# Altium schematic symbol library Connections.SchLib: 23 symbols
Pins are listed as number, name and electrical type; pins without a type are passive.

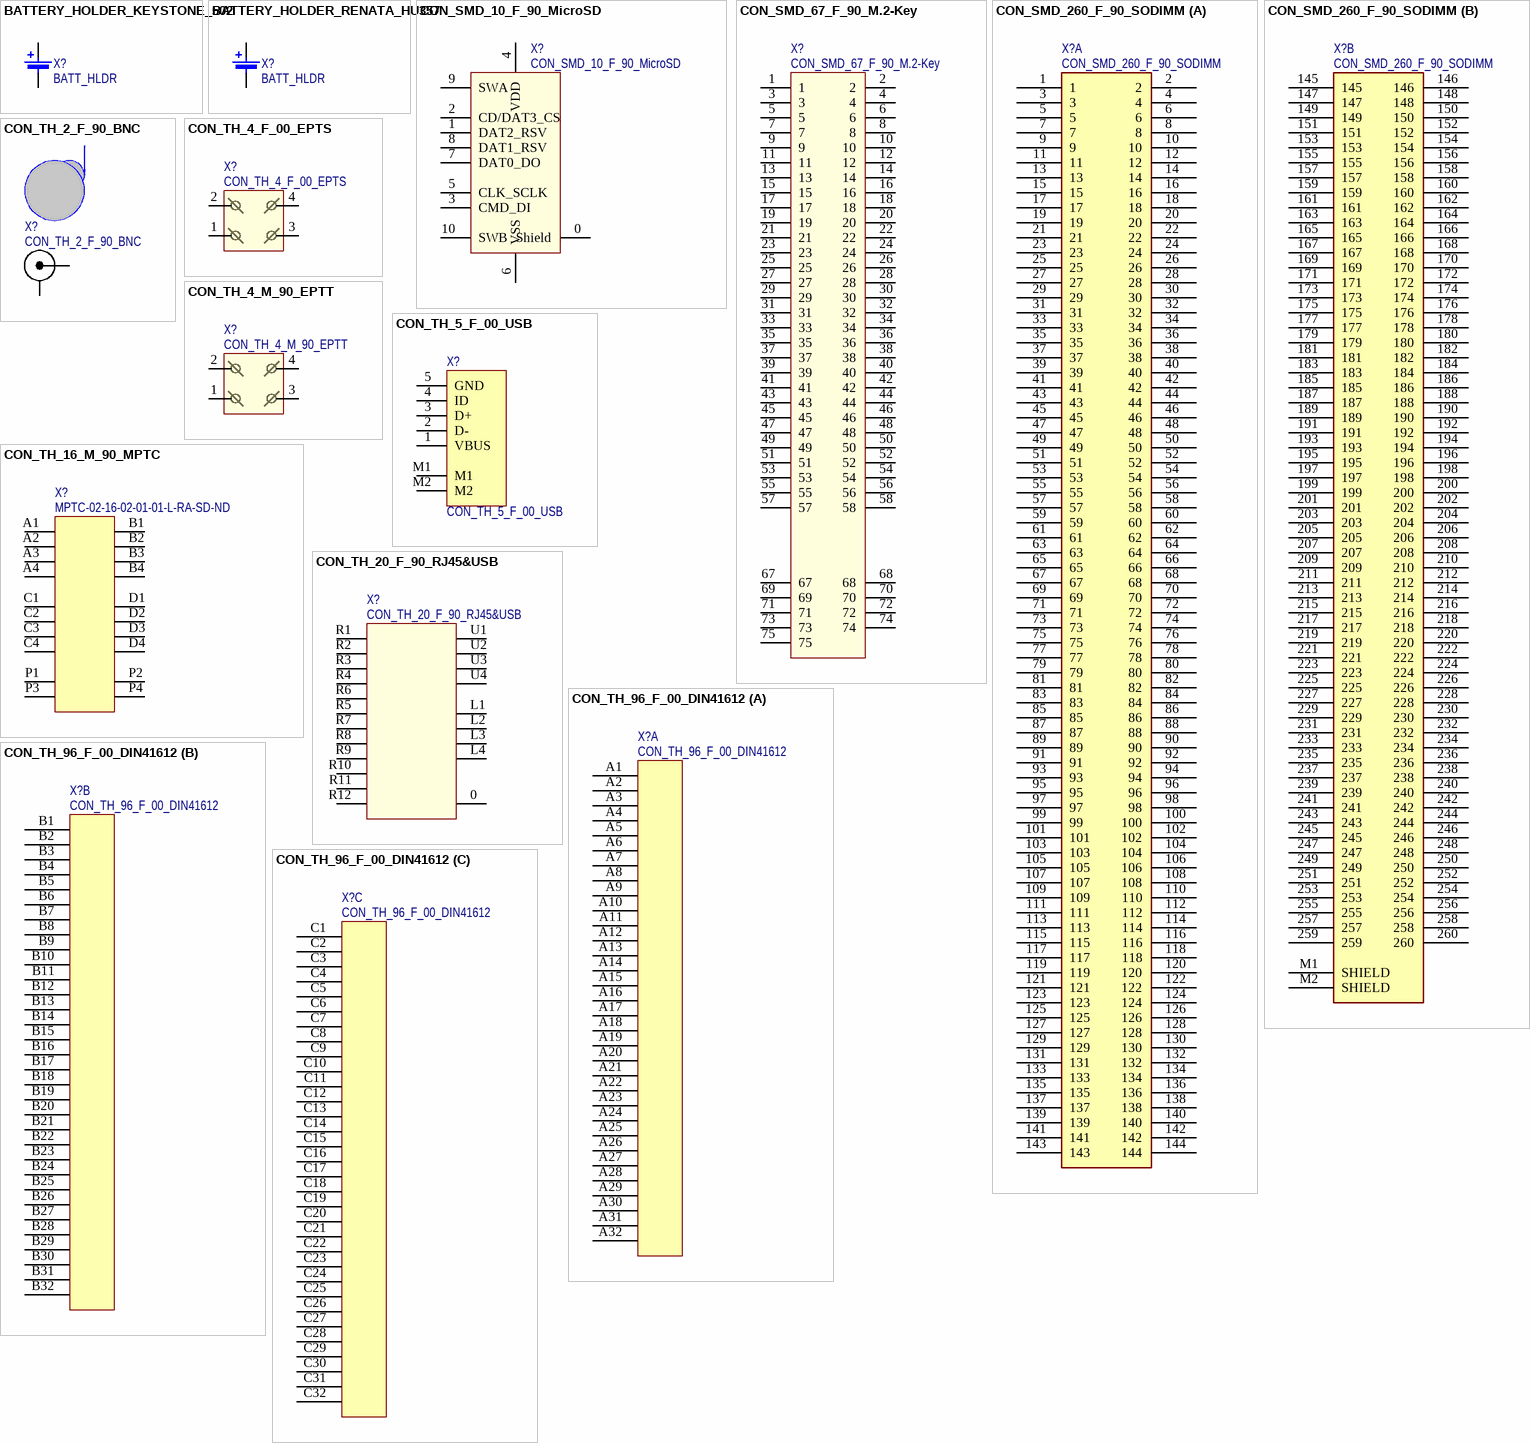
[diagram p0: symbols BATTERY_HOLDER_KEYSTONE_502 to CON_TH_96_F_00_DIN41612]

## BATTERY_HOLDER_KEYSTONE_502
designator X?, comment value BATT_HLDR  (hidden comment: Keystone 502)
Connection; Battery Holder; Coin; 16mm; Through Hole; Manufacturer Part Number: 502; ComponentLink1Description: Supplier Info; ComponentLink1URL: https://www.digikey.co.uk/en/products/detail/keystone-electronics/502/227475?s=N4IgTCBcDaIMwDYC0BWADGJA5AIiAugL5A; ComponentLink2Description: Datasheet; ComponentLink2URL: https://www.keyelco.com/userAssets/file/M65p2.pdf; Manufacturer: Keystone; Supplier 1: Digi-key; Supplier Part Number 1: 36-502-ND
footprint Battery Holder Keystone 502
pins: 1, 2

## BATTERY_HOLDER_RENATA_HU357
designator X?, comment value BATT_HLDR  (hidden comment: HU357-LF)
Connection; Battery Holder; Coin; 12mm; Through Hole; Manufacturer: Renata; Manufacturer Part Number: HU357-LF; Supplier 1: Mouser; Supplier Part Number 1: 614-HU357-LF; ComponentLink1Description: Supplier Info; ComponentLink1URL: https://www.mouser.de/ProductDetail/Renata/HU357-LF?qs=%2Fha2pyFadujb%252BjPSOXiRz7fkC43b9Pf0VN0uI1M5lhU%3D; ComponentLink2Description: Datasheet; ComponentLink2URL: https://www.mouser.de/datasheet/2/346/HU357-LF-30189.pdf
footprint KEYSTONE-BATTHLDR-103
pins: 1, 2
2 alternate drawings of the same symbol

## CON_SMD_10_F_90_MicroSD
designator X?, comment value CON_SMD_10_F_90_MicroSD  (hidden comment: 5025700893)
Connector; MicroSD; Right Angled; SMD; Card Push-Push; Manufacturer: Molex; ComponentLink1Description: Supplier Info; ComponentLink1URL: https://www.digikey.de/product-detail/en/molex/5025700893/WM19093DKR-ND/1866796; ComponentLink2Description: Datasheet; ComponentLink2URL: https://www.molex.com/pdm_docs/sd/5025700893_sd.pdf; Manufacturer Part Number: 5025700893; Supplier 1: Digi-Key; Supplier Part Number 1: WM19093CT-ND
footprint CON_SMD_10_F_90_MicroSD (Connector; MicroSD; Right Angled; SMD; Card Push-Push)
pins: 0 Shield, 1 DAT2_RSV, 2 CD/DAT3_CS, 3 CMD_DI, 4 VDD, 5 CLK_SCLK, 6 VSS, 7 DAT0_DO, 8 DAT1_RSV, 9 SWA, 10 SWB

## CON_SMD_67_F_90_M.2-Key
designator X?, comment value CON_SMD_67_F_90_M.2-Key  (hidden comment: MDT420M01001)
Connector; M.2 M-Key; 67 Positions; Female; Right Angle; Black; Manufacturer: Amphenol ICC (FCI); ComponentLink1Description: Supplier Info; ComponentLink1URL: https://www.digikey.de/product-detail/en/amphenol-icc-commercial-products/MDT420M01001/MDT420M01001DKR-ND/5810401; ComponentLink2Description: Datasheet; ComponentLink2URL: https://signin.amphenolcanada.com/ProductSearch/pdf/MDT_BRO.pdf; Manufacturer Part Number: MDT420M01001; Supplier 1: Digi-Key; Supplier Part Number 1: MDT420M01001CT-ND
footprint MDT420M01001 (M.2 (M-Key) Amphenol)
pins: 1, 2, 3, 4, 5, 6, 7, 8, 9, 10, 11, 12, 13, 14, 15, 16, 17, 18, 19, 20, 21, 22, 23, 24, 25, 26, 27, 28, 29, 30, 31, 32, 33, 34, 35, 36, 37, 38, 39, 40, 41, 42, 43, 44, 45, 46, 47, 48, 49, 50, 51, 52, 53, 54, 55, 56, 57, 58, 67, 68, 69, 70, 71, 72, 73, 74, 75

## CON_SMD_260_F_90_SODIMM
designator X?, comment value CON_SMD_260_F_90_SODIMM  (hidden comment: 2309411-1)
Connector; SODIMM; DDR4 SDRAM; 260 Pins; SMD; Right Angle; 8.0mm Height; Manufacturer: TE Connectivity AMP Connectors; ComponentLink1Description: Supplier Info; ComponentLink1URL: https://www.digikey.de/product-detail/en/te-connectivity-amp-connectors/2309411-1/A126762CT-ND/7793546; ComponentLink2Description: Datasheet; ComponentLink2URL: https://www.te.com/commerce/DocumentDelivery/DDEController?Action=srchrtrv&DocNm=2309411&DocType=Customer+Drawing&DocLang=English; Manufacturer Part Number: 2309411-1; Supplier 1: Digi-Key; Supplier Part Number 1: A126762CT-ND
footprint 2309411-1 (DDR4 SODIMM 260P 8.0H STD)
part A pins: 1, 2, 3, 4, 5, 6, 7, 8, 9, 10, 11, 12, 13, 14, 15, 16, 17, 18, 19, 20, 21, 22, 23, 24, 25, 26, 27, 28, 29, 30, 31, 32, 33, 34, 35, 36, 37, 38, 39, 40, 41, 42, 43, 44, 45, 46, 47, 48, 49, 50, 51, 52, 53, 54, 55, 56, 57, 58, 59, 60, 61, 62, 63, 64, 65, 66, 67, 68, 69, 70, 71, 72, 73, 74, 75, 76, 77, 78, 79, 80, 81, 82, 83, 84, 85, 86, 87, 88, 89, 90, 91, 92, 93, 94, 95, 96, 97, 98, 99, 100, 101, 102, 103, 104, 105, 106, 107, 108, 109, 110, 111, 112, 113, 114, 115, 116, 117, 118, 119, 120, 121, 122, 123, 124, 125, 126, 127, 128, 129, 130, 131, 132, 133, 134, 135, 136, 137, 138, 139, 140, 141, 142, 143, 144
part B pins: 145, 146, 147, 148, 149, 150, 151, 152, 153, 154, 155, 156, 157, 158, 159, 160, 161, 162, 163, 164, 165, 166, 167, 168, 169, 170, 171, 172, 173, 174, 175, 176, 177, 178, 179, 180, 181, 182, 183, 184, 185, 186, 187, 188, 189, 190, 191, 192, 193, 194, 195, 196, 197, 198, 199, 200, 201, 202, 203, 204, 205, 206, 207, 208, 209, 210, 211, 212, 213, 214, 215, 216, 217, 218, 219, 220, 221, 222, 223, 224, 225, 226, 227, 228, 229, 230, 231, 232, 233, 234, 235, 236, 237, 238, 239, 240, 241, 242, 243, 244, 245, 246, 247, 248, 249, 250, 251, 252, 253, 254, 255, 256, 257, 258, 259, 260, M1 SHIELD, M2 SHIELD

## CON_TH_2_F_90_BNC
designator X?, comment value CON_TH_2_F_90_BNC  (hidden comment: 112778)
Connector; BNC Jack; Right Angled; 75Ohm; Manufacturer: Amphenol RF; Manufacturer Part Number: 112778; Supplier 1: Digi-Key; Supplier Part Number 1: ACX1985-ND; ComponentLink1Description: Supplier Info; ComponentLink1URL: https://www.digikey.de/product-detail/en/amphenol-rf/112778/ACX1985-ND/3088370; ComponentLink2Description: Datasheet; ComponentLink2URL: https://s3-us-west-2.amazonaws.com/catsy.582/112778.pdf
footprint CON_TH_2_F_90_BNC (Connector; BNC Jack; Right Angled; 75Ohm)
pins: 0 Shield, 1 Signal

## CON_TH_4_F_00_EPTS
designator X?, comment value CON_TH_4_F_00_EPTS  (hidden comment: EPTS-2-P-D-VT-01)
Connector; Power module; Vertical; Female (Socket); Samtec EPTS Series; Manufacturer: Samtec Inc.; ComponentLink1Description: Supplier Info; ComponentLink1URL: https://www.samtec.com/products/epts-2-p-d-vt-01; ComponentLink2Description: Datasheet; ComponentLink2URL: http://suddendocs.samtec.com/catalog_english/eptt.pdf; Manufacturer Part Number: EPTS-2-P-D-VT-01; Supplier 1: Mouser; Supplier Part Number 1: 200-EPTS-2-P-D-VT-01
footprint EPTS-2-P-D-VT-1 (Power MaxiSCT (Backplane Side))
pins: 1, 2, 3, 4

## CON_TH_4_M_90_EPTT
designator X?, comment value CON_TH_4_M_90_EPTT  (hidden comment: EPTT-2-P-11.5-D-RA)
Connector; Power module; Right Angle; Male; Samtec EPTT Series; Manufacturer: Samtec Inc.; ComponentLink1Description: Supplier Info; ComponentLink1URL: https://www.samtec.com/products/eptt-2-p-11.5-d-ra; ComponentLink2Description: Datasheet; ComponentLink2URL: http://suddendocs.samtec.com/catalog_english/eptt.pdf; Manufacturer Part Number: EPTT-2-P-11.5-D-RA; Supplier 1: Mouser; Supplier Part Number 1: 200-EPTT-2-P-11.5DRA
footprint EPTT-2-P-11.5-D-RA (Power MaxiSCT (Card Side))
pins: 1, 2, 3, 4

## CON_TH_5_F_00_USB
designator X?, comment value CON_TH_5_F_00_USB  (hidden comment: 5000751517)
Connector; Receptacle; USB2.0 OTG; Mini B; Straight. Through hole; Manufacturer: Molex; ComponentLink1Description: Supplier Info; ComponentLink1URL: https://www.digikey.de/products/en?keywords=WM2072-ND; ComponentLink2Description: Datasheet; ComponentLink2URL: https://www.molex.com/pdm_docs/sd/5000751517_sd.pdf; Manufacturer Part Number: 5000751517; Supplier 1: Digi-Key; Supplier Part Number 1: WM2072-ND
footprint CON_TH_5_F_00_USB (Connector; Receptacle; USB2.0 OTG; Mini B; Straight. Through hole; MOLEX-5000751517)
pins: 1 VBUS, 2 D-, 3 D+, 4 ID, 5 GND, M1, M2

## CON_TH_16_M_90_MPTC
designator X?, comment Supplier Part Number 1: MPTC-02-16-02-01-01-L-RA-SD-ND  (hidden comment: MPTC-02-16-02-01-01-L-RA-SD)
Connector; 20 (16 + 4 Power) position; Male; Through Hole; Right Angle; SAMTEC MPTC Series; Value: CON_TH_16_M_90_MPTC; ComponentLink1Description: Supplier Info; ComponentLink1URL: https://www.digikey.com/en/products/detail/samtec-inc/MPTC-02-16-02-01-01-L-RA-SD/10218446?s=N4IgTCBcDaILIAUAqBhAtABjGgjANk2wx0xIBk0AlAQTQGUARNAOQZAF0BfIA; ComponentLink2Description: Datasheet; ComponentLink2URL: https://suddendocs.samtec.com/catalog_english/mptc_ra.pdf; Manufacturer: Samtec; Manufacturer Part Number: MPTC-02-16-02-01-01-L-RA-SD; Supplier 1: Digi-Key
footprint CON_TH_16_M_90_MPTC (Connector; 20 (16 + 4 Power) position; Male; Through Hole; Right Angle; SAMTEC MPTC Series)
pins: A1, A2, A3, A4, B1, B2, B3, B4, C1, C2, C3, C4, D1, D2, D3, D4, P1 (power), P2 (power), P3 (power), P4 (power)

## CON_TH_20_F_90_RJ45&USB
designator X?, comment value CON_TH_20_F_90_RJ45&USB  (hidden comment: RJMG233022610ER)
Connector; RJ45 with USB A; Right Angled; 1 Port; 1000 BASE-T; Manufacturer: Amphenol Commercial Products; ComponentLink1Description: Supplier Info; ComponentLink1URL: https://www.digikey.de/product-detail/en/amphenol-commercial-products/RJMG233022610ER/RJMG233022610ER-ND/5359808; ComponentLink2Description: Datasheet; ComponentLink2URL: https://cdn.amphenol-icc.com/media/wysiwyg/files/documentation/datasheet/inputoutput/io_rjmag.pdf; Manufacturer Part Number: RJMG233022610ER; Supplier 1: Digi-Key; Supplier Part Number 1: RJMG233022610ER-ND
footprint RJMG233022610ER (RJ45 + USB)
pins: 0 GND, L1, L2, L3, L4, R1, R2, R3, R4, R5, R6, R7, R8, R9, R10, R11, R12, U1 VCC, U2 DATA-, U3 DATA+, U4 GND

## CON_TH_96_F_00_DIN41612
designator X?, comment value CON_TH_96_F_00_DIN41612  (hidden comment: 09032962861)
Connector; DIN41612; 96 Positions; Female; Straight; Through Hole; Manufacturer: Harting; Manufacturer Part Number: 09032962861; ComponentLink1Description: Supplier Info; ComponentLink1URL: https://www.digikey.de/products/en?keywords=09032962861; ComponentLink2Description: Datasheet; ComponentLink2URL: https://b2b.harting.com/files/download/PRD/PDF_TS/0903296X861_100072194DRW085D.pdf; Supplier 1: Digi-Key; Supplier Part Number 1: 1195-1192-ND
footprint CON_TH_96_F_00_DIN41612 (Connector; DIN41612; 96 Positions; Female; Straight; Through Hole)
part A pins: A1, A2, A3, A4, A5, A6, A7, A8, A9, A10, A11, A12, A13, A14, A15, A16, A17, A18, A19, A20, A21, A22, A23, A24, A25, A26, A27, A28, A29, A30, A31, A32
part B pins: B1, B2, B3, B4, B5, B6, B7, B8, B9, B10, B11, B12, B13, B14, B15, B16, B17, B18, B19, B20, B21, B22, B23, B24, B25, B26, B27, B28, B29, B30, B31, B32
part C pins: C1, C2, C3, C4, C5, C6, C7, C8, C9, C10, C11, C12, C13, C14, C15, C16, C17, C18, C19, C20, C21, C22, C23, C24, C25, C26, C27, C28, C29, C30, C31, C32

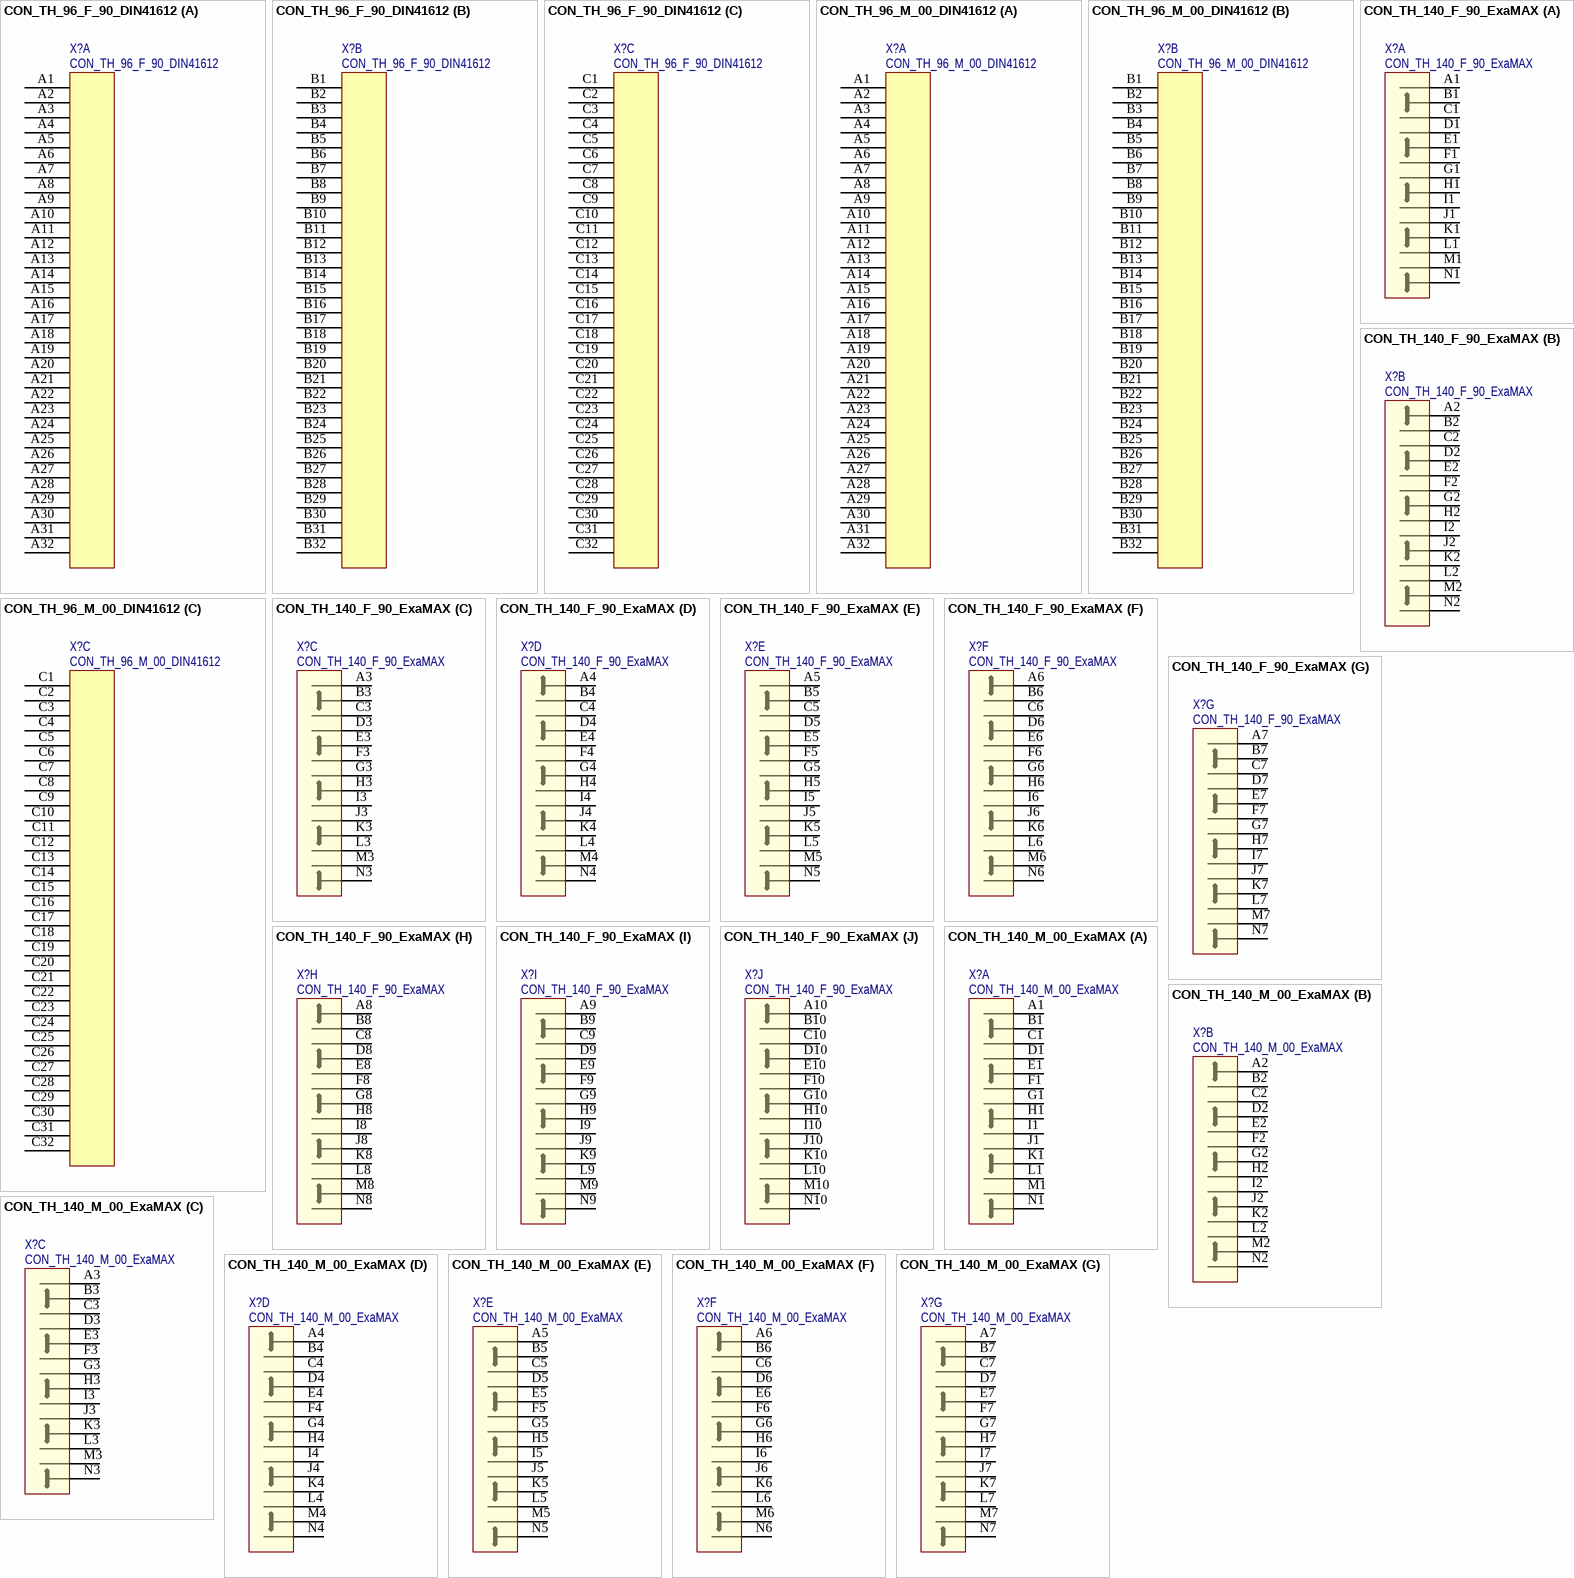
[diagram p1: symbols CON_TH_96_F_90_DIN41612 to CON_TH_140_M_00_ExaMAX]

## CON_TH_96_F_90_DIN41612
designator X?, comment value CON_TH_96_F_90_DIN41612  (hidden comment: 09732966801)
Connector; DIN41612; 96 Positions; Female; Right Angle; Through Hole; Manufacturer: Harting; Manufacturer Part Number: 09732966801; ComponentLink1Description: Supplier Info; ComponentLink1URL: https://www.digikey.de/product-detail/en/harting/09732966801/1195-2893-ND/3181477; ComponentLink2Description: Datasheet; ComponentLink2URL: https://b2b.harting.com/files/download/PRD/PDF_TS/0973296X801_100104712DRW068A.pdf; Supplier 1: Digi-Key; Supplier Part Number 1: 1195-2893-ND
footprint CON_TH_96_F_90_DIN41612 (Connector; DIN41612; 96 Positions; Female; Right Angle; Through Hole)
part A pins: A1, A2, A3, A4, A5, A6, A7, A8, A9, A10, A11, A12, A13, A14, A15, A16, A17, A18, A19, A20, A21, A22, A23, A24, A25, A26, A27, A28, A29, A30, A31, A32
part B pins: B1, B2, B3, B4, B5, B6, B7, B8, B9, B10, B11, B12, B13, B14, B15, B16, B17, B18, B19, B20, B21, B22, B23, B24, B25, B26, B27, B28, B29, B30, B31, B32
part C pins: C1, C2, C3, C4, C5, C6, C7, C8, C9, C10, C11, C12, C13, C14, C15, C16, C17, C18, C19, C20, C21, C22, C23, C24, C25, C26, C27, C28, C29, C30, C31, C32

## CON_TH_96_M_00_DIN41612
designator X?, comment value CON_TH_96_M_00_DIN41612  (hidden comment: 09731966907)
Connector; DIN41612; 96 Positions; Male; Straight; Through Hole; Manufacturer: Harting; Manufacturer Part Number: 09731966907; ComponentLink1Description: Supplier Info; ComponentLink1URL: https://www.digikey.de/products/en?keywords=09731966907; ComponentLink2Description: Datasheet; ComponentLink2URL: https://b2b.harting.com/files/download/PRD/PDF_DS/09731100001_100560208DRW001D.pdf; Supplier 1: Digi-Key; Supplier Part Number 1: 1195-5217-ND
footprint CON_TH_96_M_00_DIN41612 (Connector; DIN41612; 96 Positions; Male; Straight; Through Hole)
part A pins: A1, A2, A3, A4, A5, A6, A7, A8, A9, A10, A11, A12, A13, A14, A15, A16, A17, A18, A19, A20, A21, A22, A23, A24, A25, A26, A27, A28, A29, A30, A31, A32
part B pins: B1, B2, B3, B4, B5, B6, B7, B8, B9, B10, B11, B12, B13, B14, B15, B16, B17, B18, B19, B20, B21, B22, B23, B24, B25, B26, B27, B28, B29, B30, B31, B32
part C pins: C1, C2, C3, C4, C5, C6, C7, C8, C9, C10, C11, C12, C13, C14, C15, C16, C17, C18, C19, C20, C21, C22, C23, C24, C25, C26, C27, C28, C29, C30, C31, C32

## CON_TH_140_F_90_ExaMAX
designator X?, comment value CON_TH_140_F_90_ExaMAX  (hidden comment: EBTF-4-10-2.0-S-RA-1)
Connector; Receptacle; Female; 140 Pins; Through Hole; Press-Fit; Right Angle; Black; Manufacturer: Samtec Inc.; ComponentLink1Description: Supplier Info; ComponentLink1URL: https://www.samtec.com/products/ebtf-4-10-2.0-s-ra-1; ComponentLink2Description: Datasheet; ComponentLink2URL: http://suddendocs.samtec.com/catalog_english/ebtf-ra.pdf; Manufacturer Part Number: EBTF-4-10-2.0-S-RA-1; Supplier 1: Digi-Key; Supplier Part Number 1: SAM14995-ND
footprint EBTF-4-10-2.0-S-RA-1 (Signals MaxiSCT (SCT8 side))
part A pins: A1, B1, C1, D1, E1, F1, G1, H1, I1, J1, K1, L1, M1, N1
part B pins: A2, B2, C2, D2, E2, F2, G2, H2, I2, J2, K2, L2, M2, N2
part C pins: A3, B3, C3, D3, E3, F3, G3, H3, I3, J3, K3, L3, M3, N3
part D pins: A4, B4, C4, D4, E4, F4, G4, H4, I4, J4, K4, L4, M4, N4
part E pins: A5, B5, C5, D5, E5, F5, G5, H5, I5, J5, K5, L5, M5, N5
part F pins: A6, B6, C6, D6, E6, F6, G6, H6, I6, J6, K6, L6, M6, N6
part G pins: A7, B7, C7, D7, E7, F7, G7, H7, I7, J7, K7, L7, M7, N7
part H pins: A8, B8, C8, D8, E8, F8, G8, H8, I8, J8, K8, L8, M8, N8
part I pins: A9, B9, C9, D9, E9, F9, G9, H9, I9, J9, K9, L9, M9, N9
part J pins: A10, B10, C10, D10, E10, F10, G10, H10, I10, J10, K10, L10, M10, N10

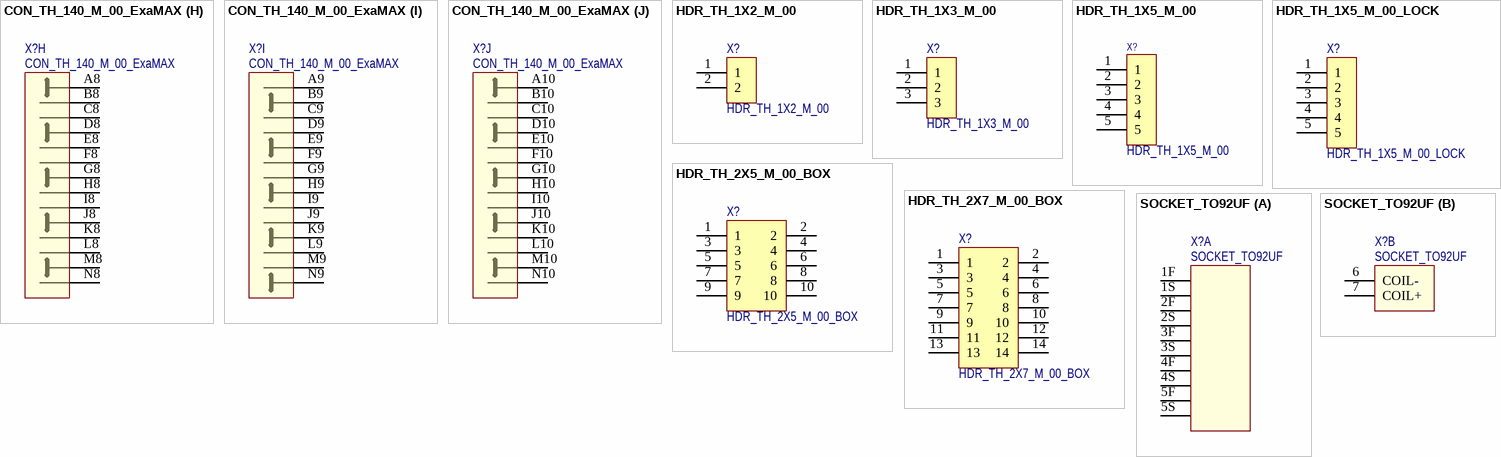
[diagram p2: symbols CON_TH_140_M_00_ExaMAX to SOCKET_TO92UF]

## CON_TH_140_M_00_ExaMAX
designator X?, comment value CON_TH_140_M_00_ExaMAX  (hidden comment: EBTM-4-10-2.0-S-VT-1)
Connector; Header; Male; 140 Pins; Through Hole; Press-Fit; Black; Manufacturer: Samtec Inc.; ComponentLink1Description: Supplier Info; ComponentLink1URL: https://www.samtec.com/products/ebtm-4-10-2.0-s-vt-1; ComponentLink2Description: Datasheet; ComponentLink2URL: https://suddendocs.samtec.com/catalog_english/ebtm.pdf; Manufacturer Part Number: EBTM-4-10-2.0-S-VT-1; Supplier 1: Digi-Key; Supplier Part Number 1: SAM14997-ND
footprint EBTM-4-10-2.0-S-VT-1 (Signals MaxiSCT (Backplane side))
part A pins: A1, B1, C1, D1, E1, F1, G1, H1, I1, J1, K1, L1, M1, N1
part B pins: A2, B2, C2, D2, E2, F2, G2, H2, I2, J2, K2, L2, M2, N2
part C pins: A3, B3, C3, D3, E3, F3, G3, H3, I3, J3, K3, L3, M3, N3
part D pins: A4, B4, C4, D4, E4, F4, G4, H4, I4, J4, K4, L4, M4, N4
part E pins: A5, B5, C5, D5, E5, F5, G5, H5, I5, J5, K5, L5, M5, N5
part F pins: A6, B6, C6, D6, E6, F6, G6, H6, I6, J6, K6, L6, M6, N6
part G pins: A7, B7, C7, D7, E7, F7, G7, H7, I7, J7, K7, L7, M7, N7
part H pins: A8, B8, C8, D8, E8, F8, G8, H8, I8, J8, K8, L8, M8, N8
part I pins: A9, B9, C9, D9, E9, F9, G9, H9, I9, J9, K9, L9, M9, N9
part J pins: A10, B10, C10, D10, E10, F10, G10, H10, I10, J10, K10, L10, M10, N10

## HDR_TH_1X2_M_00
designator X?, comment value HDR_TH_1X2_M_00  (hidden comment: 825433-2)
Header; 1x2 pins; Male; Straight; Pitch 2.54mm; Manufacturer: TE Connectivity; Manufacturer Part Number: 825433-2; Supplier 1: Digi-Key; Supplier Part Number 1: A106464-ND; ComponentLink1Description: Supplier Info; ComponentLink1URL: https://www.digikey.de/product-detail/en/te-connectivity-amp-connectors/825433-2/A106464-ND/2188229; ComponentLink2Description: Datasheet; ComponentLink2URL: https://www.te.com/commerce/DocumentDelivery/DDEController?Action=srchrtrv&DocNm=825433&DocType=Customer+Drawing&DocLang=English
footprint HDR_TH_1X2_M_00 (Header; 1x2 pins; Male; Straight; Pitch 2.54mm)
pins: 1, 2

## HDR_TH_1X3_M_00
designator X?, comment value HDR_TH_1X3_M_00  (hidden comment: 825433-3)
Header; 1x3 pins; Male; Straight; Pitch 2.54mm; Manufacturer: TE Connectivity; Manufacturer Part Number: 825433-2; ComponentLink1Description: Supplier Info; ComponentLink1URL: https://www.digikey.de/product-detail/en/te-connectivity-amp-connectors/825433-3/A106465-ND/2054408; ComponentLink2Description: Datasheet; ComponentLink2URL: https://www.te.com/commerce/DocumentDelivery/DDEController?Action=srchrtrv&DocNm=825433&DocType=Customer+Drawing&DocLang=English; Supplier 1: Digi-Key; Supplier Part Number 1: A106465-ND
footprint HDR_TH_1X3_M_00 (Header; 1x3 pins; Male; Straight; Pitch 2.54mm)
pins: 1, 2, 3

## HDR_TH_1X5_M_00
designator X?, comment value HDR_TH_1X5_M_00  (hidden comment: HMTSW-105-07-G-S-240)
Header; 1x5 pins; Male; Straight; Pitch 2.54mm; Samtec HMTSW Series; Manufacturer: Samtec Inc.; ComponentLink1Description: Supplier Info; ComponentLink1URL: https://www.samtec.com/products/hmtsw-105-07-g-s-240; ComponentLink2Description: Datasheet; ComponentLink2URL: http://suddendocs.samtec.com/catalog_english/hmtsw.pdf; Manufacturer Part Number: HMTSW-105-07-G-S-240; Supplier 1: Digi-Key; Supplier Part Number 1: HMTSW-105-07-G-S-240-ND
footprint HDR_TH_1X5_M_00 (Header; 2x5 pins; Male; Straight; Pitch 2.54mm; Shrouded (4 walls); Samtec HMTSW Series)
pins: 1, 2, 3, 4, 5

## HDR_TH_1X5_M_00_LOCK
designator X?, comment value HDR_TH_1X5_M_00_LOCK  (hidden comment: 22-29-2051)
Header; 1x5 pins; Male; Straight; Pitch 2.54mm; Lock Funcion; Board to Cable/Wire; Manufacturer: Molex; ComponentLink1Description: Supplier Info; ComponentLink1URL: https://www.digikey.de/products/en?keywords=WM2747-ND; ComponentLink2Description: Datasheet; ComponentLink2URL: https://www.molex.com/pdm_docs/sd/022292051_sd.pdf; Manufacturer Part Number: 22-29-2051; Supplier 1: Digi-Key; Supplier Part Number 1: 23-0022292051-ND
footprint HDR_TH_1X5_M_00_LOCK (Header; 1x5 pins; Male; Straight; Pitch 2.54mm; Lock Funcion; Board to Cable/Wire)
pins: 1, 2, 3, 4, 5

## HDR_TH_2X5_M_00_BOX
designator X?, comment value HDR_TH_2X5_M_00_BOX  (hidden comment: 09185106324)
Header; 2x5 pins; Male; Straight; Pitch 2.54mm; Shrouded (4 walls); Manufacturer: HARTING; ComponentLink1Description: Supplier Info; ComponentLink1URL: https://www.digikey.de/product-detail/en/harting/09185106324/1195-1672-ND/3180255; ComponentLink2Description: Datasheet; ComponentLink2URL: https://b2b.harting.com/files/download/PRD/PDF_TS/09185XXX324_100154466DRW008A.pdf; Manufacturer Part Number: 09185106324; Supplier 1: Digi-Key; Supplier Part Number 1: 1195-1672-ND
footprint HDR_TH_2X5_M_00_BOX (Header; 2x5 pins; Male; Straight; Pitch 2.54mm; Shrouded (4 walls))
pins: 1, 2, 3, 4, 5, 6, 7, 8, 9, 10

## HDR_TH_2X7_M_00_BOX
designator X?, comment value HDR_TH_2X7_M_00_BOX  (hidden comment: LTMM-107-02-F-D)
Header; 2x5 pins; Male; Straight; Pitch 2.54mm; Shrouded (4 walls); Samtec LTMM Series; Manufacturer: Samtec Inc.; ComponentLink1Description: Supplier Info; ComponentLink1URL: https://www.samtec.com/products/ltmm-107-02-f-d; ComponentLink2Description: Datasheet; ComponentLink2URL: https://suddendocs.samtec.com/prints/ltmm-1xx-xx-xx-d-xx-xx-footprint.pdf; Manufacturer Part Number: LTMM-107-02-F-D; Supplier 1: Digi-Key; Supplier Part Number 1: LTMM-107-02-F-D-ND
footprint HDR_TH_2X7_M_00_BOX (Header; 2x5 pins; Male; Straight; Pitch 2.54mm; Shrouded (4 walls); Samtec LTMM Series)
pins: 1, 2, 3, 4, 5, 6, 7, 8, 9, 10, 11, 12, 13, 14

## SOCKET_TO92UF
designator X?
Socket; TO92; Coil; Force and Sense pads; Manufacturer: *; Manufacturer Part Number: *; Supplier 1: *; Supplier Part Number 1: *; Value: SOCKET_TO92UF
footprint SOCKET_TO92UF (Socket; TO92; Coil; F and S pads)
part A pins: 1F, 1S, 2F, 2S, 3F, 3S, 4F, 4S, 5F, 5S
part B pins: 6 COIL-, 7 COIL+